# Altium schematic symbol library BK-18650-PC8.SchLib: 1 symbol
Pins are listed as number, name and electrical type; pins without a type are passive.

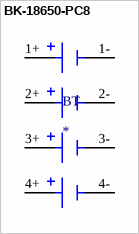
[diagram p0: symbol BK-18650-PC8]

## BK-18650-PC8
designator BT
Battery Holder _Open_ 18650 4 Cell PC Pin; MP: BK-18650-PC8; MF: MPD; Availability: Unavailable; SnapEDA_Link: https://www.snapeda.com/parts/BK-18650-PC8/MPD%20%28Memory%20Protection%20Devices%29/view-part/51231/?ref=snap; Package: None; Price: None; Value: *
footprint BAT_BK-18650-PC8
pins: 1+, 1-, 2+, 2-, 3+, 3-, 4+, 4-